# EAGLE library part PIC18F25K40 (library SparkFun-DigitalIC)
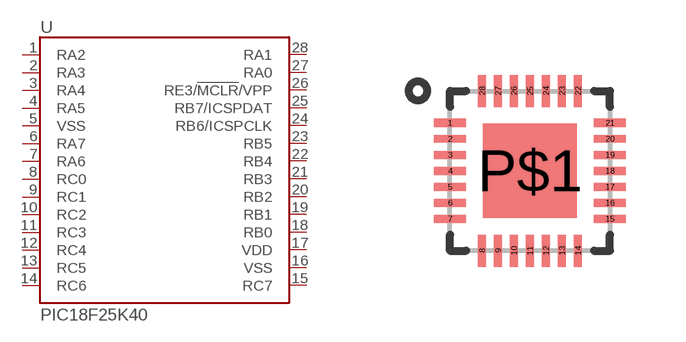
[diagram p143: symbol with the pads of UQFN-28-4X4MM; footprint UQFN-28-4X4MM]

Designator prefix U

## PIC18F25K40UQFN  [UQFN-28-4X4MM]
1  RA2  pwr
2  RA3  pwr
3  RA4  pwr
4  RA5  pwr
5  VSS  pwr
6  RA7  pwr
7  RA6  pwr
8  RC0  pwr
9  RC1  pwr
10  RC2  pwr
11  RC3  pwr
12  RC4  pwr
13  RC5  pwr
14  RC6  pwr
15  RC7  pwr
16  VSS  pwr
17  VDD  pwr
18  RB0  pwr
19  RB1  pwr
20  RB2  pwr
21  RB3  pwr
22  RB4  pwr
23  RB5  pwr
24  RB6/ICSPCLK  pwr
25  RB7/ICSPDAT  pwr
26  RE3/!MCLR!/VPP  pwr
27  RA0  pwr
28  RA1  pwr

## Footprint UQFN-28-4X4MM (pad centres in mm)
Description: Footprint based off of the datasheet for the PIC18F25K40 in a UQFN 4x4x0.5mm 28 pin package
smd 0.8 x 0.2: 1 -2,1.2; 2 -2,0.8; 3 -2,0.4; 4 -2,0; 5 -2,-0.4; 6 -2,-0.8; 7 -2,-1.2; 15 2,-1.2; 16 2,-0.8; 17 2,-0.4; 18 2,0; 19 2,0.4; 20 2,0.8; 21 2,1.2
smd 0.2 x 0.8: 8 -1.2,-2; 9 -0.8,-2; 10 -0.4,-2; 11 0,-2; 12 0.4,-2; 13 0.8,-2; 14 1.2,-2; 22 1.2,2; 23 0.8,2; 24 0.4,2; 25 0,2; 26 -0.4,2; 27 -0.8,2; 28 -1.2,2
smd 2.35 x 2.35: P$1 0,0